# Altium footprint library PTS125SM73SMTR21MLFS.PcbLib: 1 footprints
Each footprint in its own frame and in the unit in brackets; x right, y up, seen from the top. Pads: shape width x height; smd on the part's side, far side on the other; paste and mask are expansions set on the pad; w line width, h text height; cw(c..) or ccw(c..) is an arc to the next point about the centre after c.
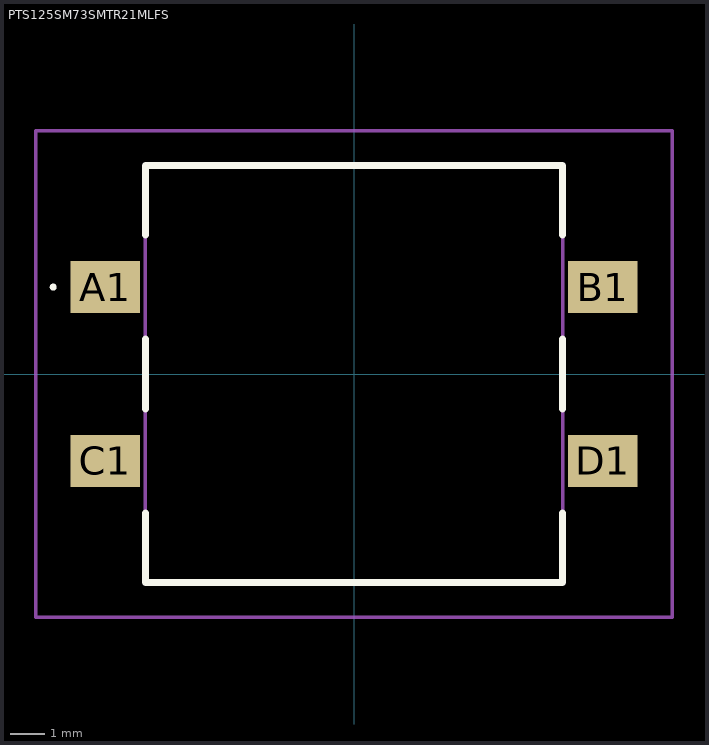
[diagram p0: the footprint, top view; thin cyan lines are the x and y axes]

## PTS125SM73SMTR21MLFS [mm]
pads (4):
  rect 2x1.5 smd: A1(-7.15,2.5) B1(7.15,2.5) C1(-7.15,-2.5) D1(7.15,-2.5)
Top Overlay:
  lines w0.1: -8.7,2.5 -8.7,2.5 ; -8.7,2.5 ccw(c-8.65,2.5) -8.6,2.5 ; -8.7,2.5 cw(c-8.65,2.5) -8.6,2.5 ; -8.6,2.5 -8.6,2.5
  lines w0.2: -6,-4 -6,-6 6,-6 6,-4 ; -6,-1 -6,1 ; -6,4 -6,6 6,6 6,4 ; 6,-1 6,1
Mechanical 15:
  lines w0.1: -6,-6 6,-6 6,6 -6,6 -6,-6
Mechanical 20:
  lines w0.1: -9.15,-7 9.15,-7 9.15,7 -9.15,7 -9.15,-7
3D body "PTS125SM73SMTR21M_LFS.stp": height 5.8, standoff -4.65, extent -10,-3.376 10,3.376